# Altium integrated library PTS645SH50SMTR92LFS.IntLib: 2 symbols
Pins are listed as number, name and electrical type; pins without a type are passive.

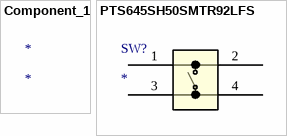
[diagram p0: symbols Component_1 to PTS645SH50SMTR92LFS]

## Component_1
designator *

## PTS645SH50SMTR92LFS
designator SW?
No Description Available; Mfr_Name: C&K Components; Type: Tactile Switches; RefDes: RefDes
footprint PTS645S_SMTR92_CNK
pins: 1, 2, 3, 4